# Altium schematic symbol library Copy of Plant_Monitor.SchLib: 6 symbols
Pins are listed as number, name and electrical type; pins without a type are passive.

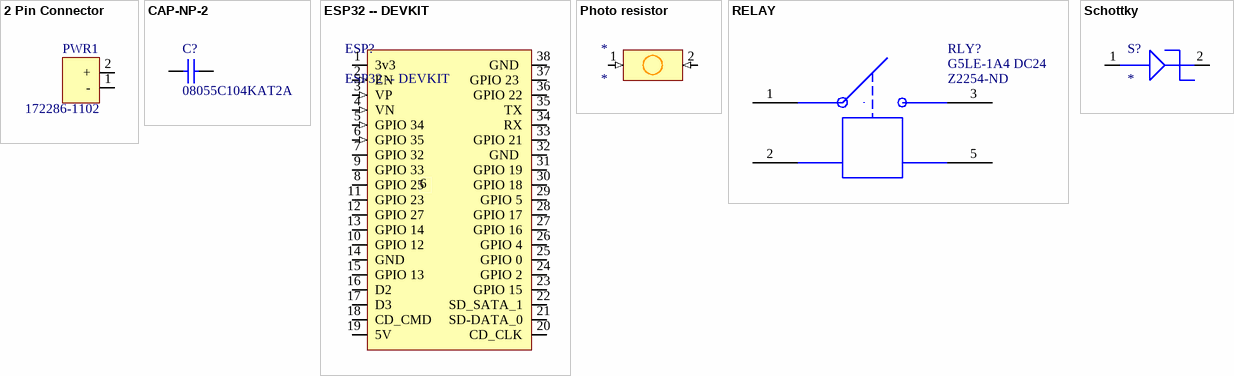
[diagram p0: symbols 2 Pin Connector to Schottky]

## 2 Pin Connector
designator PWR1, comment 172286-1102
MOLEX - 172286-1102. - CONNECTOR, HEADER, 2POS, 1ROW, 3.5MM; Voltage Rating: 400V; Number of Positions: 2; Current Rating: 14A; Connector Type: Male Pin; Pitch: 0.138inch; Gender: Male; Number of Pins: 2; Fastening Type: Latch; Orientation: Vertical; Number of Contacts: 2; Packaging: Tray; REACH SVHC: Unknown; Contact Material: Copper Alloy; Mount: Through Hole; Color: Black; Number of Rows: 1; Contact Plating: Tin; Number of Circuits: 2; Termination: Solder
footprint 2x1
pins: 1 - (power), 2 + (power)

## CAP-NP-2
designator C?, comment 08055C104KAT2A
Chip Capacitor, Ceramic, 0.1 uF, 10%, 50 V, 0805, RoHS, Tape and Reel; Manufacturer: AVX; Rated Voltage: 50V; Capacitance: 100nF; Dielectric: X7R; Case Size/Dimension: 0805; Tolerance (%): ±10%; Datasheet URL: http://www.farnell.com/datasheets/319609.pdf; Datasheet Version: Sep-07; Manufacturer URL: http://www.avx.com/
footprint R0805
pins: 1, 2

## ESP32 -- DEVKIT
designator ESP?
footprint ESP32 -- DEVKITC
pins: 1 3v3 (power), 2 EN (in), 3 VP (in), 4 VN (in), 5 GPIO 34 (in), 6 GPIO 35 (in), 7 GPIO 32 (io), 8 GPIO 25 (io), 9 GPIO 33 (io), 10 GPIO 12 (io), 11 GPIO 23 (io), 12 GPIO 27 (io), 13 GPIO 14 (io), 14 GND  (power), 15 GPIO 13 (io), 16 D2 (io), 17 D3 (io), 18 CD_CMD (io), 19 5V (power), 20 CD_CLK (io), 21 SD-DATA_0 (io), 22 SD_SATA_1 (io), 23 GPIO 15 (io), 24 GPIO 2 (io), 25 GPIO 0 (io), 26 GPIO 4 (io), 27 GPIO 16 (io), 28 GPIO 17 (io), 29 GPIO 5 (io), 30 GPIO 18 (io), 31 GPIO 19 (io), 32 GND  (power), 33 GPIO 21 (io), 34 RX (io), 35 TX (io), 36 GPIO 22 (io), 37 GPIO 23  (io), 38 GND  (power)

## Photo resistor
designator *
footprint Photoresistor
pins: 1 (in), 2 (in)

## RELAY
designator RLY?, comment G5LE-1A4 DC24  Supplier Part Number 1: Z2254-ND
Supplier 1: Digi-Key
footprint 24V RELAY
pins: 1 0, 2 1, 3 2, 5 3

## Schottky
designator S?
footprint SODFL100X40-2N (SODFL, 2-Leads, Body 0.60x1.00mm, IPC Medium Density)
pins: 1, 2